# Altium schematic symbol library Conn_Headers.SchLib: 1 symbol
Pins are listed as number, name and electrical type; pins without a type are passive.

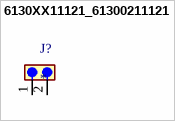
[diagram p0: symbol 6130XX11121_61300211121]

## 6130XX11121_61300211121
designator J?
MF: {'manufacturer': u'Wurth Electronics'}; MP: 61300211121; Package: None; Price: None; Value: *; Availability: Unavailable
footprint 61300211121
pins: 1, 2